# Altium schematic symbol library lib_nxp.SchLib: 5 symbols
Pins are listed as number, name and electrical type; pins without a type are passive.

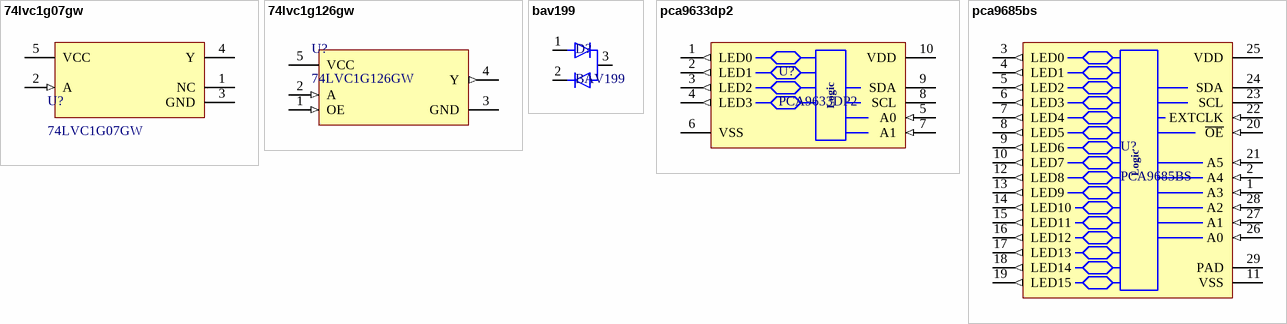
[diagram p0: symbols 74lvc1g07gw to pca9685bs]

## 74lvc1g07gw
designator U?, comment 74LVC1G07GW
Buffer with open-drain output; ComponentLink1Description: Datasheet; ComponentLink1URL: https://assets.nexperia.com/documents/data-sheet/74LVC1G07.pdf; Supplier 1: Digi-Key; Supplier Part Number 1: 1727-3099-1-ND; Supplier 2: Digi-Key; Supplier Part Number 2: 1727-3099-6-ND; Supplier 3: Mouser; Supplier Part Number 3: 771-74LVC1G07GW-G
footprint SOT65P212X110-5N_74LVC1G07gw (SOT23, 5-Leads, Body 2.05x2.13mm, Pitch 0.65mm, IPC Medium Density)
pins: 1 NC, 2 A (in), 3 GND (power), 4 Y (oc), 5 VCC (power)

## 74lvc1g126gw
designator U?, comment 74LVC1G126GW
Bus buffer/line driver; 3-state; ComponentLink1Description: Datasheet; ComponentLink1URL: https://assets.nexperia.com/documents/data-sheet/74LVC1G126.pdf
footprint SOT65P212X110-5N_74LVC1G07gw (SOT23, 5-Leads, Body 2.05x2.13mm, Pitch 0.65mm, IPC Medium Density)
pins: 1 OE (in), 2 A (in), 3 GND (power), 4 Y (out), 5 VCC (power)

## bav199
designator D?, comment BAV199
Low-leakage double diode
footprint SOT95P230X110-3N_BAV199 (SOT23, 3-Leads, Body 2.90x2.30mm, Pitch 0.95mm, IPC Medium Density)
pins: 1 A1, 2 K2, 3 K1,A2

## pca9633dp2
designator U?, comment PCA9633DP2
4-bit Fm+ I2C-bus LED driver; ComponentLink1Description: datasheet; ComponentLink1URL: https://www.nxp.com/docs/en/data-sheet/PCA9633.pdf?
footprint TSSOP50P490X110-10N_PCA9633DP2 (TSSOP, 10-Leads, Body 2.95x3.00mm, Pitch 0.50mm, IPC Medium Density)
pins: 1 LED0 (out), 2 LED1 (out), 3 LED2 (out), 4 LED3 (out), 5 A0 (in), 6 VSS (power), 7 A1 (in), 8 SCL (oc), 9 SDA (oc), 10 VDD (power)
text: Logic

## pca9685bs
designator U?, comment PCA9685BS
16-channel, 12-bit PWM Fm+ I2C-bus LED controller; ComponentLink1Description: datasheet; ComponentLink1URL: https://www.nxp.com/docs/en/data-sheet/PCA9685.pdf
footprint QFN65P600X600X100_HS-29N_PCA9685BS (QFN, 28-Leads, Body 6.00x6.00mm, Pitch 0.65mm, Thermal Pad 4.10x4.10mm, IPC Medium Density)
pins: 1 A3 (in), 2 A4 (in), 3 LED0 (out), 4 LED1 (out), 5 LED2 (out), 6 LED3 (out), 7 LED4 (out), 8 LED5 (out), 9 LED6 (out), 10 LED7 (out), 11 VSS (power), 12 LED8 (out), 13 LED9 (out), 14 LED10 (out), 15 LED11 (out), 16 LED12 (out), 17 LED13 (out), 18 LED14 (out), 19 LED15 (out), 20 ~{OE} (in), 21 A5 (in), 22 EXTCLK (in), 23 SCL (oc), 24 SDA (oc), 25 VDD (power), 26 A0 (in), 27 A1 (in), 28 A2 (in), 29 PAD (power)
text: Logic